# Altium footprint library componenten.PcbLib: 8 footprints
Each footprint in its own frame and in the unit in brackets; x right, y up, seen from the top. Pads: shape width x height; smd on the part's side, far side on the other; paste and mask are expansions set on the pad; w line width, h text height; cw(c..) or ccw(c..) is an arc to the next point about the centre after c.
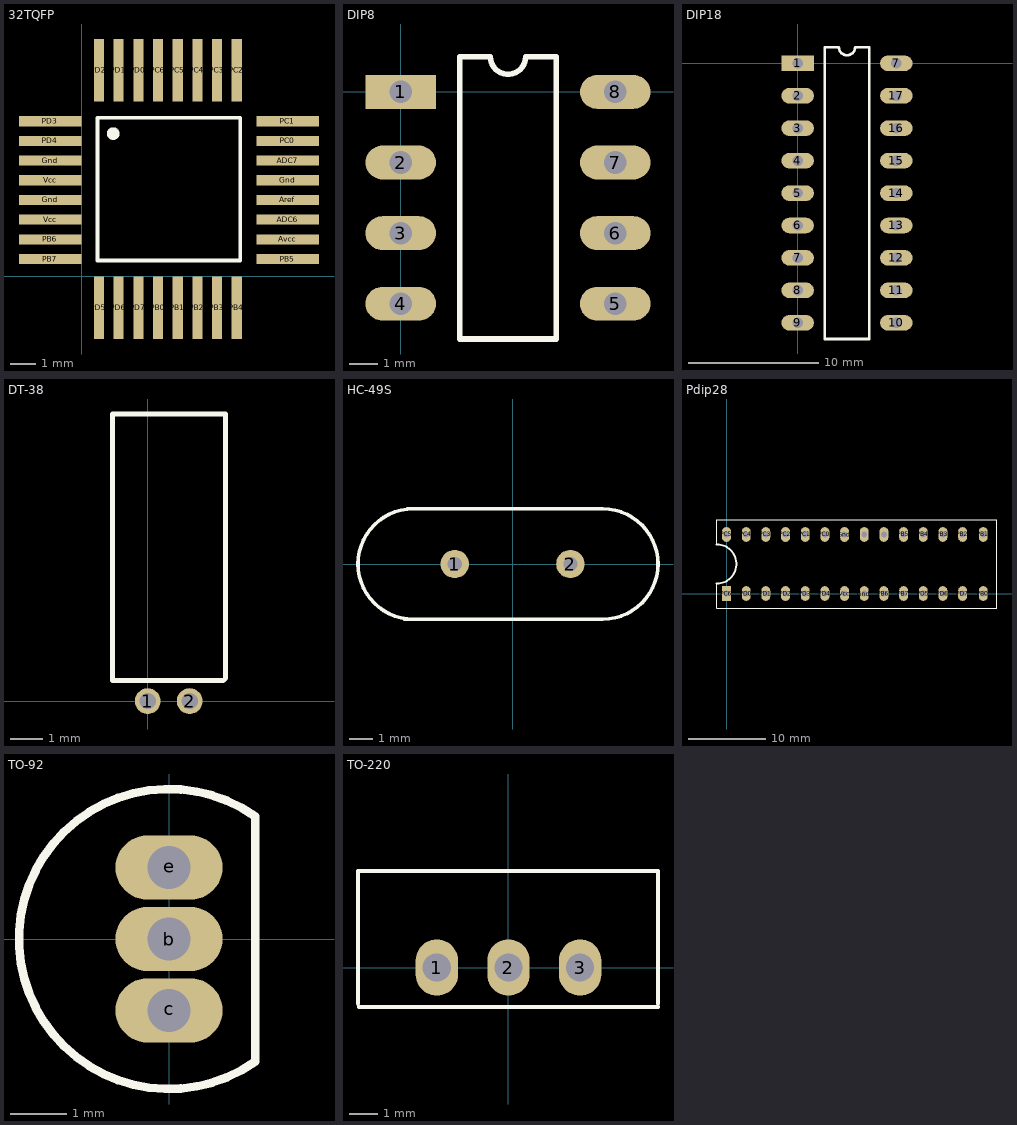
[diagram p0: the footprints below, top view; thin cyan lines are the x and y axes]

## 32TQFP [mm] "Voor atmega328p"
pads (32):
  rect 2.5x0.406 smd: ADC6(8.25,2.273) ADC7(8.25,4.635) Aref(8.25,3.061) Avcc(8.25,1.486) Gnd(-1.25,3.061) Gnd(-1.25,4.635) Gnd(8.25,3.848) PB5(8.25,0.699) PB6(-1.25,1.486) PB7(-1.25,0.699) PC0(8.25,5.423) PC1(8.25,6.21) PD3(-1.25,6.21) PD4(-1.25,5.423) Vcc(-1.25,2.273) Vcc(-1.25,3.848)
  rect 0.406x2.5 smd: PB0(3.061,-1.25) PB1(3.848,-1.25) PB2(4.635,-1.25) PB3(5.423,-1.25) PB4(6.21,-1.25) PC2(6.21,8.25) PC3(5.423,8.25) PC4(4.635,8.25) PC5(3.848,8.25) PC6(3.061,8.25) PD0(2.273,8.25) PD1(1.486,8.25) PD2(0.699,8.25) PD5(0.699,-1.25) PD6(1.486,-1.25) PD7(2.273,-1.25)
Top Overlay:
  lines w0.152: 0.635,0.635 0.635,6.35 6.35,6.35 6.35,0.635 0.635,0.635
  lines w0.254: 1.384,5.658 cw(c1.27,5.715) 1.397,5.715
3D body: height 1.27, standoff 0.05, extent 0,0 6.985,6.985

## DIP8 [mm]
pads (8):
  rect 2.5x1.2 hole 0.8: 1(0,0)
  oval 2.5x1.2 hole 0.8: 2(0,-2.5) 3(0,-5) 4(0,-7.5) 5(7.6,-7.5) 6(7.6,-5) 7(7.6,-2.5) 8(7.6,0)
Top Overlay:
  lines w0.2: 2.085,-8.75 2.085,1.25 3.175,1.25 ccw(c3.8,1.25) 4.425,1.25 5.515,1.25 5.515,-8.75 2.085,-8.75

## DIP18 [mm]
pads (18):
  rect 2.5x1.2 hole 0.8: 1(0,0)
  oval 2.5x1.2 hole 0.8: 2(0,-2.5) 3(0,-5) 4(0,-7.5) 5(0,-10) 6(0,-12.5) 7(0,-15) 7(7.6,0) 8(0,-17.5) 9(0,-20) 10(7.6,-20) 11(7.6,-17.5) 12(7.6,-15) 13(7.6,-12.5) 14(7.6,-10) 15(7.6,-7.5) 16(7.6,-5) 17(7.6,-2.5)
Top Overlay:
  lines w0.2: 2.085,-21.25 5.515,-21.25 5.515,1.25 4.425,1.25 cw(c3.8,1.25) 3.175,1.25 2.085,1.25 2.085,-21.25
3D body: height 4.7, standoff 1, extent 0.635,-20.955 6.985,1.27

## DT-38 [mm]
pads (2):
  round 0.8 hole 0.5: 1(0,0) 2(1.3,0)
Top Overlay:
  lines w0.152: -1.095,0.635 -1.095,8.89 2.413,8.89 2.413,0.714 2.334,0.635 -1.095,0.635
3D body: height 3.1, standoff 0.1, extent -0.864,0.763 2.134,8.763

## HC-49S [mm]
pads (2):
  round 1.2 hole 0.6: 1(-2.44,0) 2(2.44,0)
Top Overlay:
  lines w0.152: -4.572,-2.325 3.81,-2.325 ccw(c3.81,0) 3.81,2.325 -4.445,2.325 ; -4.191,-2.328 cw(c-4.191,0) -4.191,2.328
3D body: height 0.3, standoff 0, extent -6.487,-2.297 6.107,2.297
3D body: height 3.7, standoff 0.3, extent -6.104,-1.913 5.341,1.913

## Pdip28 [mil]
pads (28):
  oval 45x75 hole 30: Aref(700,300) Avcc(800,300) Gnd(600,300) Gnd(700,0) PB0(1305,0) PB1(1305,300) PB2(1200,300) PB3(1100,300) PB4(1000,300) PB5(900,300) PB6(800,0) PB7(900,0) PC0(500,300) PC1(400,300) PC2(300,300) PC3(200,300) PC4(100,300) PC5(0,300) PD0(100,0) PD1(200,0) PD2(300,0) PD3(400,0) PD4(500,0) PD5(1000,0) PD6(1100,0) PD7(1200,0) Vcc(600,0)
  rect 45x75 hole 30: PC6(0,0)
Top Overlay:
  lines w6: -50,50 -50,-75 1375,-75 1375,375 -50,375 -50,250
  lines w10: -50,50 ccw(c-50,150) -50,250
3D body: height 152, standoff 5, extent -50,-5 1375,300
3D body: height 105, standoff -5, extent -10,-10 10,-5
3D body: height 105, standoff -5, extent -10,-10 10,-5
3D body: height 105, standoff -5, extent 90,-10 110,-5
3D body: height 105, standoff -5, extent 190,-10 210,-5
3D body: height 105, standoff -5, extent 290,-10 310,-5
3D body: height 105, standoff -5, extent 390,-10 410,-5
3D body: height 105, standoff -5, extent 490,-10 510,-5
3D body: height 105, standoff -5, extent 590,-10 610,-5
3D body: height 105, standoff -5, extent 690,-10 710,-5
3D body: height 105, standoff -5, extent 790,-10 810,-5
3D body: height 105, standoff -5, extent 890,-10 910,-5
3D body: height 105, standoff -5, extent 990,-10 1010,-5
3D body: height 105, standoff -5, extent 1090,-10 1110,-5
3D body: height 105, standoff -5, extent 1190,-10 1210,-5
3D body: height 105, standoff -5, extent 1290,-10 1310,-5
3D body: height 110, standoff -5, extent -10,300 10,305
3D body: height 110, standoff -5, extent -10,300 10,305
3D body: height 110, standoff -5, extent 90,300 110,305
3D body: height 110, standoff -5, extent 190,300 210,305
3D body: height 110, standoff -5, extent 290,300 310,305
3D body: height 110, standoff -5, extent 390,300 410,305
3D body: height 110, standoff -5, extent 490,300 510,305
3D body: height 110, standoff -5, extent 590,300 610,305
3D body: height 110, standoff -5, extent 690,300 710,305
3D body: height 110, standoff -5, extent 790,300 810,305
3D body: height 110, standoff -5, extent 890,300 910,305
3D body: height 110, standoff -5, extent 990,300 1010,305
3D body: height 110, standoff -5, extent 1090,300 1110,305
3D body: height 110, standoff -5, extent 1190,300 1210,305
3D body: height 110, standoff -5, extent 1290,300 1310,305

## TO-92 [mil] "To-92 package"
height 196.85
pads (3):
  oval 75x45 hole 30: b(0,0) c(0,-50) e(0,50)
Top Overlay:
  lines w6: 60.23,-86.01 cw(c0,0) 60.23,86.01 60.23,-86.01
3D body: height 190.85, standoff -6, extent -12.4,37.53 12.5,62.48
3D body: height 190.85, standoff -6, extent -12.4,-12.47 12.5,12.48
3D body: height 190.85, standoff -6, extent -12.4,-62.47 12.5,-37.52
3D body: height 314.96, standoff 118.11, extent -105,-105 60,105

## TO-220 [mm] "to220 package"
pads (3):
  oval 1.5x2 hole 1: 1(-2.54,0) 2(0,0) 3(2.54,0)
Top Overlay:
  lines w0.152: -5.334,-1.28 -5.334,3.42 ; -5.3,-1.397 5.3,-1.397 ; -5.3,3.42 5.3,3.42 5.3,-1.28
3D body: height 20.4, standoff 7.6, extent -5.334,2.54 5.334,3.429
3D body: height 4.9, standoff -1, extent -2.921,-0.127 -2.159,0.127
3D body: height 4.9, standoff -1, extent -0.381,-0.127 0.381,0.127
3D body: height 4.9, standoff -1, extent 2.159,-0.127 2.921,0.127
3D body: height 12.9, standoff 3.9, extent -5.334,-1.397 5.334,3.429